# Altium schematic symbol library 5V_volt_regulator.SchLib: 6 symbols
Pins are listed as number, name and electrical type; pins without a type are passive.

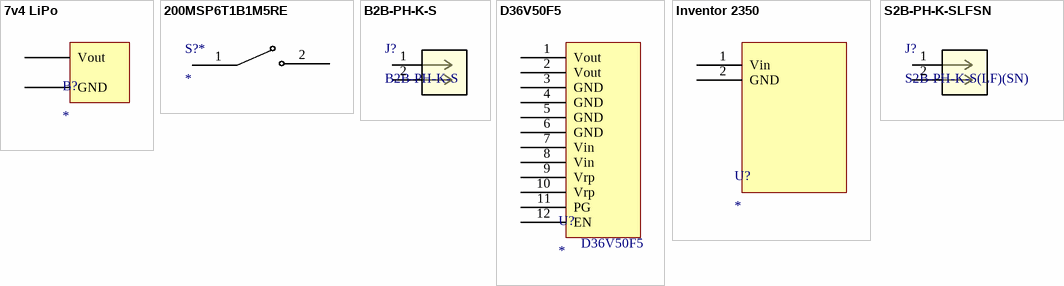
[diagram p0: symbols 7v4 LiPo to S2B-PH-K-SLFSN]

## 7v4 LiPo
designator B?
pins: 34 Vout, 35 GND

## 200MSP6T1B1M5RE
designator S?*
SPST Switch
footprint SWITCH
pins: 1 39, 2 38

## B2B-PH-K-S
designator J?
Description; Manufacturer_Name: JST; Copyright: Copyright (C) 2026 Ultra Librarian. All rights reserved.; Manufacturer_Part_Number: B2B-PH-K-S; RefDes: RefDes; Type: Type
footprint CONN2_B2B-PH-K-S_JST
pins: 1, 2

## D36V50F5
designator U?
5V, 5.5A Step-Down Voltage Regulator D36V50F5
footprint D36V50F5_
pins: 1 Vout, 2 Vout, 3 GND (power), 4 GND (power), 5 GND (power), 6 GND (power), 7 Vin, 8 Vin, 9 Vrp, 10 Vrp, 11 PG, 12 EN

## Inventor 2350
designator U?
footprint Inventor_2350
pins: 1 Vin, 2 GND

## S2B-PH-K-SLFSN
designator J?, comment S2B-PH-K-S(LF)(SN)
CONNECTOR; MALE; THROUGH HOLE; 2.0MM PITCH; DISCONNECTABLE CRIMP STYLE CONNECTOR; SIDE ENTRY TYPE; RIGHT ANGLE; 2PINS; Manufacturer_Name: JST; Copyright: Copyright (C) 2025 Ultra Librarian. All rights reserved.; Manufacturer_Part_Number: S2B-PH-K-S(LF)(SN); RefDes: RefDes; Type: Type
footprint CONN_S2B-PH-K-S_JST
pins: 1, 2